# EAGLE library part TPS2020 (library X893)
http://focus.ti.com/lit/ds/symlink/tps2024.pdf
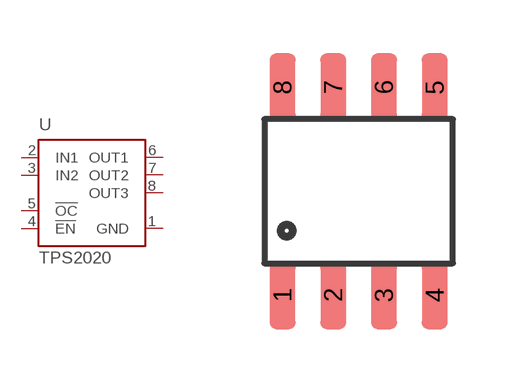
[diagram p64: symbol with the pads of SO08; footprint SO08]

Designator prefix U

## TPS2020D  [SO08]
1  GND  pas
2  IN1  pas
3  IN2  pas
4  !EN  pas
5  !OC  pas
6  OUT1  pas
7  OUT2  pas
8  OUT3  pas

## Footprint SO08 (pad centres in mm)
Small Outline Package Fits JEDEC packages (narrow SOIC-8)
smd 0.65 x 1.7: 1 -1.905,-2.6; 2 -0.635,-2.6; 3 0.635,-2.6; 4 1.905,-2.6; 5 1.905,2.6; 6 0.635,2.6; 7 -0.635,2.6; 8 -1.905,2.6